# Altium footprint library 接线端子封装库.PcbLib: 73 footprints (part 2 of 5)
Each footprint in its own frame and in the unit in brackets; x right, y up, seen from the top. Pads: shape width x height; smd on the part's side, far side on the other; paste and mask are expansions set on the pad; w line width, h text height; cw(c..) or ccw(c..) is an arc to the next point about the centre after c.
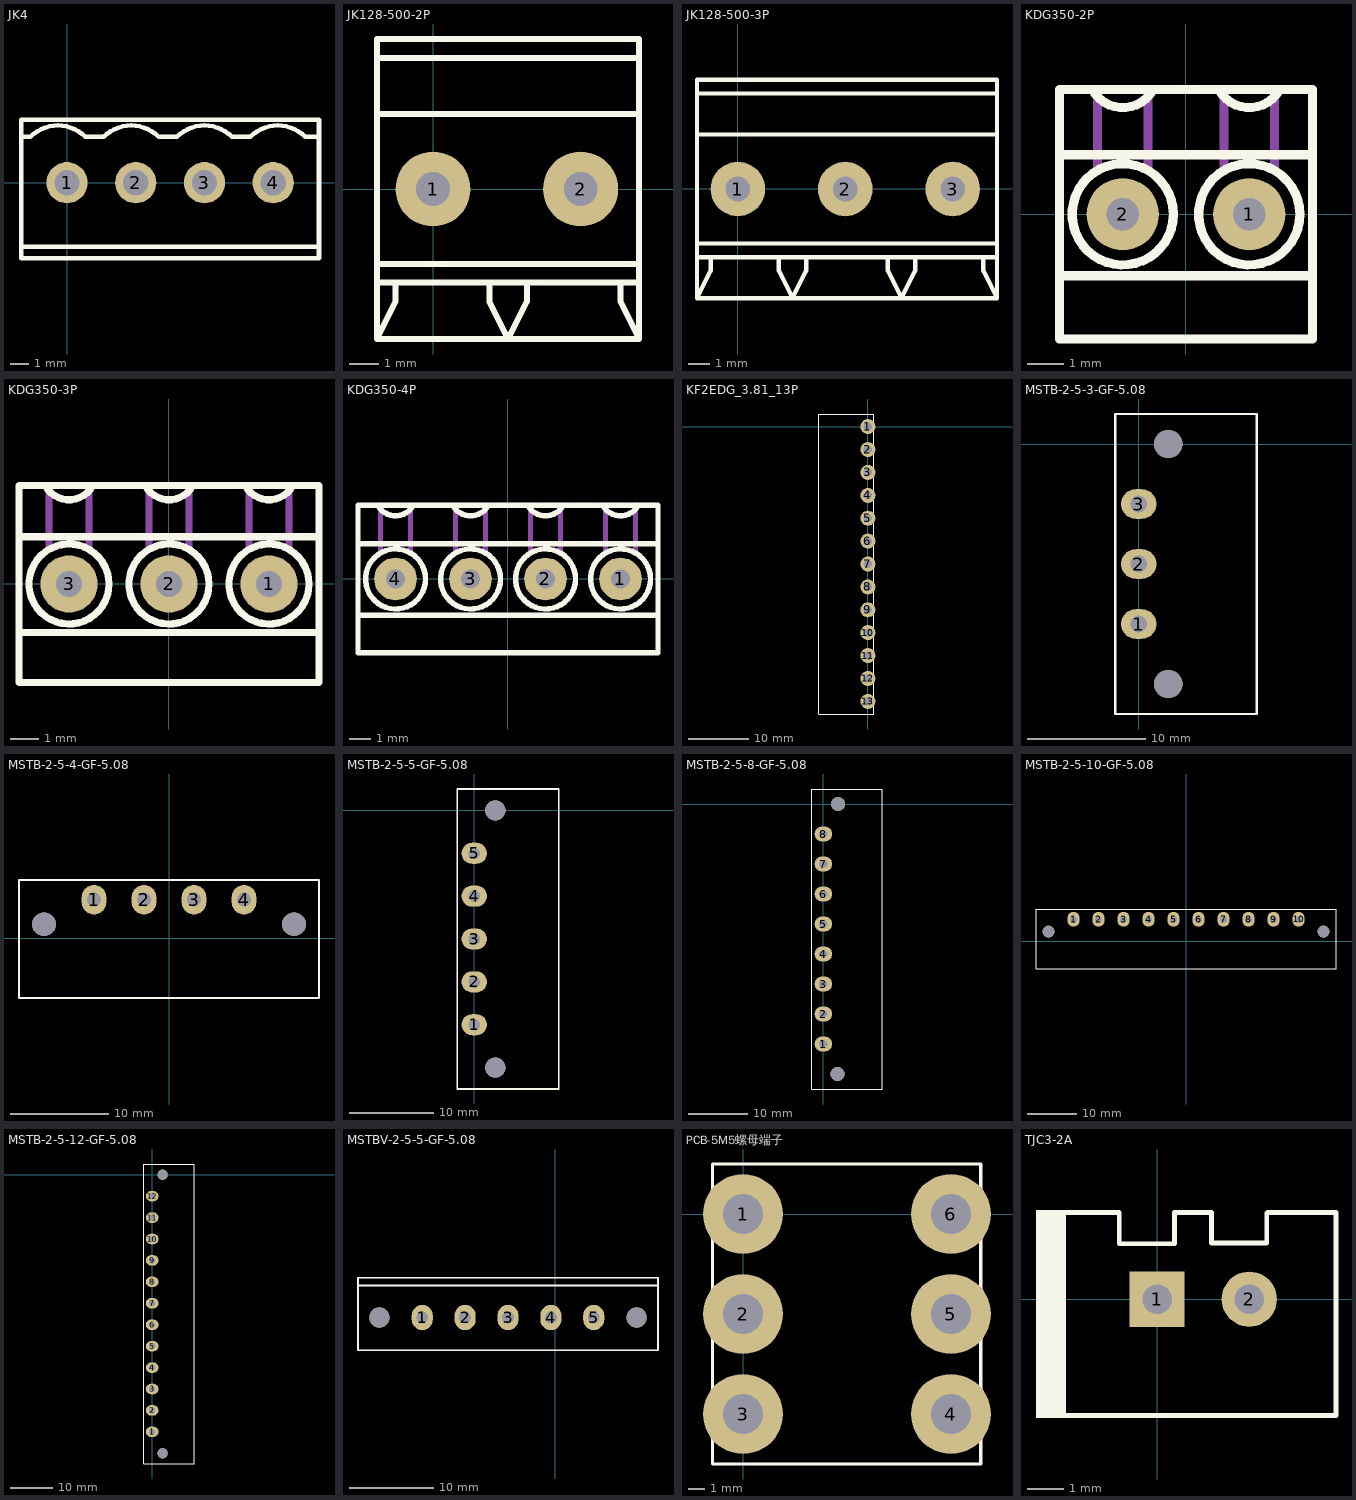
[diagram p1: the footprints below, top view; thin cyan lines are the x and y axes]

## JK4 [mil]
pads (4):
  round 90 hole 55: 1(0,0) 2(150,0) 3(300,0) 4(450,0)
Top Overlay:
  lines w9.84: -80,100 cw(c-20,40) 40,100 ; 80,100 cw(c140,40) 200,100 ; 240,100 cw(c300,40) 360,100 ; 400,100 cw(c460,40) 520,100
  lines w10: -100,-140 550,-140 ; -100,100 -80,100 ; 40,100 80,100 ; 200,100 240,100 ; 360,100 400,100 ; 520,100 550,100 ; -100,-165.35 550,-165.35 550,137.8 -100,137.8 -100,-165.35

## JK128-500-2P [mil]
pads (2):
  round 100 hole 45: 1(0,0) 2(196.85,0)
Top Overlay:
  lines w8: -75,-125 275,-125 ; -75,-100 275,-100 ; -75,100 275,100 ; -75,175 275,175 ; -50,-125 -50,-150 -75,-200 ; 75,-125 75,-150 100,-200 125,-150 125,-125 ; 250,-125 250,-150 275,-200 ; -75,-200 -75,200 275,200 275,-200 ; -75,-200 275,-200

## JK128-500-3P [mil]
pads (3):
  round 100 hole 45: 1(0,-0.02) 2(196.85,-0.02) 3(393.7,-0.02)
Top Overlay:
  lines w8: -75,-125.02 225,-125.02 275,-125.02 275,-150.02 300,-200.02 325,-150.02 325,-125.02 ; -75,99.98 225,99.98 275,99.98 ; -75,174.98 225,174.98 275,174.98 ; -50,-125.02 -50,-150.02 -75,-200.02 ; 75,-125.02 75,-150.02 100,-200.02 125,-150.02 125,-125.02 425,-125.02 475,-125.02 ; 125,-200.02 425,-200.02 475,-200.02 ; 125,-100.02 425,-100.02 475,-100.02 ; 125,99.98 425,99.98 475,99.98 ; 125,174.98 425,174.98 475,174.98 ; 125,199.98 425,199.98 475,199.98 475,149.98 475,-150.02 475,-200.02 ; 275,-200.02 225,-200.02 -75,-200.02 ; 275,-100.02 225,-100.02 -75,-100.02 ; 275,199.98 225,199.98 -75,199.98 -75,-100.02 ; 450,-125.02 450,-150.02 475,-200.02 ; -75,-200.02 -75,-100.02

## KDG350-2P [mm]
pads (2):
  round 2 hole 0.9: 1(1.761,-0.006) 2(-1.739,-0.006)
Top Overlay:
  circle w0.254: c1.761,-0.006 r1.4
  circle w0.254: c-1.739,-0.006 r1.4
  lines w0.254: -3.489,-1.706 3.511,-1.706 ; -3.489,1.644 3.511,1.644 ; -2.567,3.428 ccw(c-1.739,3.894) -0.911,3.428 ; 0.933,3.428 ccw(c1.761,3.894) 2.589,3.428 ; -3.489,-3.456 3.511,-3.456 3.511,3.444 -3.489,3.444 -3.489,-3.456
Mechanical 1:
  lines w0.254: -2.439,1.244 -2.439,3.444 ; -1.039,1.244 -1.039,3.444 ; 1.061,1.244 1.061,3.444 ; 2.461,1.244 2.461,3.444

## KDG350-3P [mm]
pads (3):
  round 2 hole 0.9: 1(3.511,-0.011) 2(0.011,-0.011) 3(-3.489,-0.011)
Top Overlay:
  circle w0.254: c3.511,-0.011 r1.4
  circle w0.254: c-3.489,-0.011 r1.4
  circle w0.254: c0.011,-0.011 r1.4
  lines w0.254: -5.239,-1.711 5.261,-1.711 ; -5.239,1.639 5.261,1.639 ; -4.317,3.424 ccw(c-3.489,3.889) -2.661,3.424 ; -0.817,3.424 ccw(c0.011,3.889) 0.839,3.424 ; 2.683,3.424 ccw(c3.511,3.889) 4.339,3.424 ; -5.239,-3.461 -5.239,3.439 5.261,3.439 5.261,-3.461 -5.239,-3.461
Mechanical 1:
  lines w0.254: -4.189,1.239 -4.189,3.439 ; -2.789,1.239 -2.789,3.439 ; -0.689,1.239 -0.689,3.439 ; 0.711,1.239 0.711,3.439 ; 2.811,1.239 2.811,3.439 ; 4.211,1.239 4.211,3.439

## KDG350-4P [mm]
pads (4):
  round 2 hole 0.9: 1(5.262,-0.011) 2(1.762,-0.011) 3(-1.738,-0.011) 4(-5.238,-0.011)
Top Overlay:
  circle w0.254: c-5.238,-0.011 r1.4
  circle w0.254: c5.262,-0.011 r1.4
  circle w0.254: c-1.738,-0.011 r1.4
  circle w0.254: c1.762,-0.011 r1.4
  lines w0.254: -6.988,-1.711 7.012,-1.711 ; -6.988,1.639 7.012,1.639 ; -6.066,3.423 ccw(c-5.238,3.889) -4.41,3.423 ; -2.566,3.423 ccw(c-1.738,3.889) -0.91,3.423 ; 0.934,3.423 ccw(c1.762,3.889) 2.59,3.423 ; 4.434,3.423 ccw(c5.262,3.889) 6.09,3.423 ; -6.988,-3.461 -6.988,3.439 7.012,3.439 7.012,-3.461 -6.988,-3.461
Mechanical 1:
  lines w0.254: -5.938,1.239 -5.938,3.439 ; -4.538,1.239 -4.538,3.439 ; -2.438,1.239 -2.438,3.439 ; -1.038,1.239 -1.038,3.439 ; 1.062,1.239 1.062,3.439 ; 2.462,1.239 2.462,3.439 ; 4.562,1.239 4.562,3.439 ; 5.962,1.239 5.962,3.439

## KF2EDG_3.81_13P [mm]
height 7
pads (13):
  round 2.5 hole 1.4: 1(0,0) 2(0,-3.81) 3(0,-7.62) 4(0,-11.43) 5(0,-15.24) 6(0,-19.05) 7(0,-22.86) 8(0,-26.67) 9(0,-30.48) 10(0,-34.29) 11(0,-38.1) 12(0,-41.91) 13(0,-45.72)
Top Overlay:
  lines w0.2: -8.2,-47.825 1,-47.825 1,2.105 -8.2,2.105 -8.2,-47.825

## MSTB-2-5-3-GF-5.08 [mm] "菲尼克斯"
height 8.6
pads (5):
  oval 3x2.5 hole 1.4: 1(0,-15.24) 2(0,-10.16) 3(0,-5.08)
  round 2.4 hole 2.4: ""(2.5,-20.32) ""(2.5,0)
Top Overlay:
  lines w0.2: -2,-22.86 10,-22.86 10,2.54 -2,2.54 -2,-22.86
3D body: height 9, standoff -3.1, extent -2.064,-22.86 9.938,2.54

## MSTB-2-5-4-GF-5.08 [mm] "菲尼克斯"
height 8.6
pads (6):
  oval 2.5x3 hole 1.4: 1(-7.62,3.937) 2(-2.54,3.937) 3(2.54,3.937) 4(7.62,3.937)
  round 2.4 hole 2.4: ""(-12.7,1.437) ""(12.7,1.437)
Top Overlay:
  lines w0.2: -15.24,-6.063 -15.24,5.937 15.24,5.937 15.24,-6.063 -15.24,-6.063
3D body: height 9, standoff -3.1, extent -15.24,-6.096 15.24,5.906

## MSTB-2-5-5-GF-5.08 [mm] "菲尼克斯"
height 8.6
pads (7):
  oval 3x2.5 hole 1.4: 1(0,-25.4) 2(0,-20.32) 3(0,-15.24) 4(0,-10.16) 5(0,-5.08)
  round 2.4 hole 2.4: ""(2.5,-30.48) ""(2.5,0)
Top Overlay:
  lines w0.2: -2,-33.02 -2,2.54 10,2.54 10,-33.02 -2,-33.02

## MSTB-2-5-8-GF-5.08 [mm] "菲尼克斯"
height 8.6
pads (10):
  oval 3x2.5 hole 1.4: 1(0,-40.64) 2(0,-35.56) 3(0,-30.48) 4(0,-25.4) 5(0,-20.32) 6(0,-15.24) 7(0,-10.16) 8(0,-5.08)
  round 2.4 hole 2.4: ""(2.4,-45.72) ""(2.5,0)
Top Overlay:
  lines w0.2: -2,-48.26 -2,2.54 10,2.54 10,-48.26 -2,-48.26
3D body: height 9, standoff -3.1, extent -1.969,-48.26 10.033,2.54

## MSTB-2-5-10-GF-5.08 [mm] "菲尼克斯"
height 8.6
pads (12):
  oval 2.5x3 hole 1.4: 1(-22.86,4.445) 2(-17.78,4.445) 3(-12.7,4.445) 4(-7.62,4.445) 5(-2.54,4.445) 6(2.54,4.445) 7(7.62,4.445) 8(12.7,4.445) 9(17.78,4.445) 10(22.86,4.445)
  round 2.4 hole 2.4: ""(-27.94,1.945) ""(27.94,1.945)
Top Overlay:
  lines w0.2: -30.48,-5.555 -30.48,6.445 30.48,6.445 30.48,-5.555 -30.48,-5.555
3D body: height 9, standoff -3.1, extent -30.48,-5.588 30.48,6.414

## MSTB-2-5-12-GF-5.08 [mm] "菲尼克斯"
height 8.6
pads (14):
  oval 3x2.5 hole 1.4: 1(0,-60.96) 2(0,-55.88) 3(0,-50.8) 4(0,-45.72) 5(0,-40.64) 6(0,-35.56) 7(0,-30.48) 8(0,-25.4) 9(0,-20.32) 10(0,-15.24) 11(0,-10.16) 12(0,-5.08)
  round 2.4 hole 2.4: ""(2.5,-66.04) ""(2.5,0)
Top Overlay:
  lines w0.2: -2,-68.58 -2,2.54 10,2.54 10,-68.58 -2,-68.58
3D body: height 9, standoff -3.1, extent -1.905,-68.58 10.097,2.54

## MSTBV-2-5-5-GF-5.08 [mm] "菲尼克斯"
height 12
pads (7):
  oval 2.5x3 hole 1.4: 1(-15.748,-21.717) 2(-10.668,-21.717) 3(-5.588,-21.717) 4(-0.508,-21.717) 5(4.572,-21.717)
  round 2.4 hole 2.4: ""(-20.828,-21.717) ""(9.652,-21.717)
Top Overlay:
  lines w0.2: -23.368,-17.917 12.192,-17.917 ; -23.368,-25.587 -23.368,-17.017 12.192,-17.017 12.192,-25.587 -23.368,-25.587
3D body: height 12, standoff -3.9, extent -23.368,-25.618 12.192,-17.018

## PCB-5M5螺母端子 [mm] "鑫硕电子"
height 12
pads (6):
  round 5 hole 2.5: 1(0,0) 2(0,-6.25) 3(0,-12.5) 4(13,-12.5) 5(13,-6.25) 6(13,0)
Top Overlay:
  lines w0.2: -1.905,-15.625 14.859,-15.625 ; -1.905,-15.621 -1.905,3.129 14.859,3.129 14.859,-15.621

## TJC3-2A [mil]
pads (2):
  rect 60x60 hole 32: 1(0,0)
  round 60 hole 32: 2(100,0)
Top Overlay:
  region: -98.84,96.5 -131.17,96.5 -131.17,-128.5 -98.84,-128.5
  lines w5: -105,-126 194,-126 194,94 119.48,94 ; -104,94 -87,94 -41,94 -41,60 19,60 19,94 59,94 59,61 119,61 119,93.52